# EAGLE library part ACS712 (library Pauls_parts)
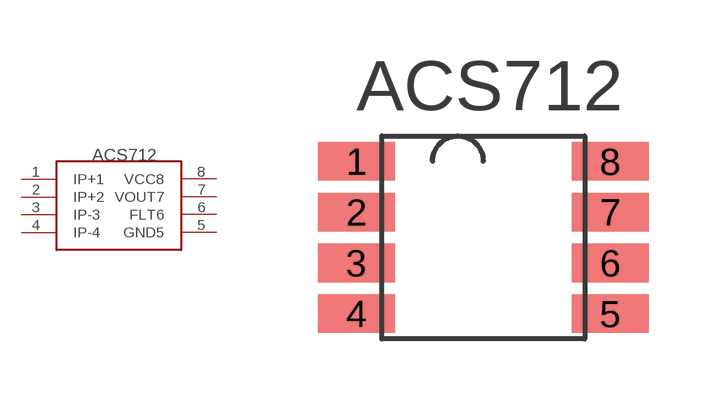
[diagram p0: symbol with the pads of SOIC8; footprint SOIC8]

Designator prefix -

## ACS712  [SOIC8]
1  IP+1
2  IP+2
3  IP-3
4  IP-4
5  GND5  pwr
6  FLT6  pas
7  VOUT7  out
8  VCC8  pwr

## Footprint SOIC8 (pad centres in mm)
smd 1.93 x 0.965: 1 -4.445,1.27; 2 -4.445,0; 3 -4.445,-1.27; 4 -4.445,-2.54; 5 1.905,-2.54; 6 1.905,-1.27; 7 1.905,0; 8 1.905,1.27